# Altium footprint library blecontrollerPCB1_master.PcbLib: 180 footprints (part 7 of 12)
Each footprint in its own frame and in the unit in brackets; x right, y up, seen from the top. Pads: shape width x height; smd on the part's side, far side on the other; paste and mask are expansions set on the pad; w line width, h text height; cw(c..) or ccw(c..) is an arc to the next point about the centre after c.
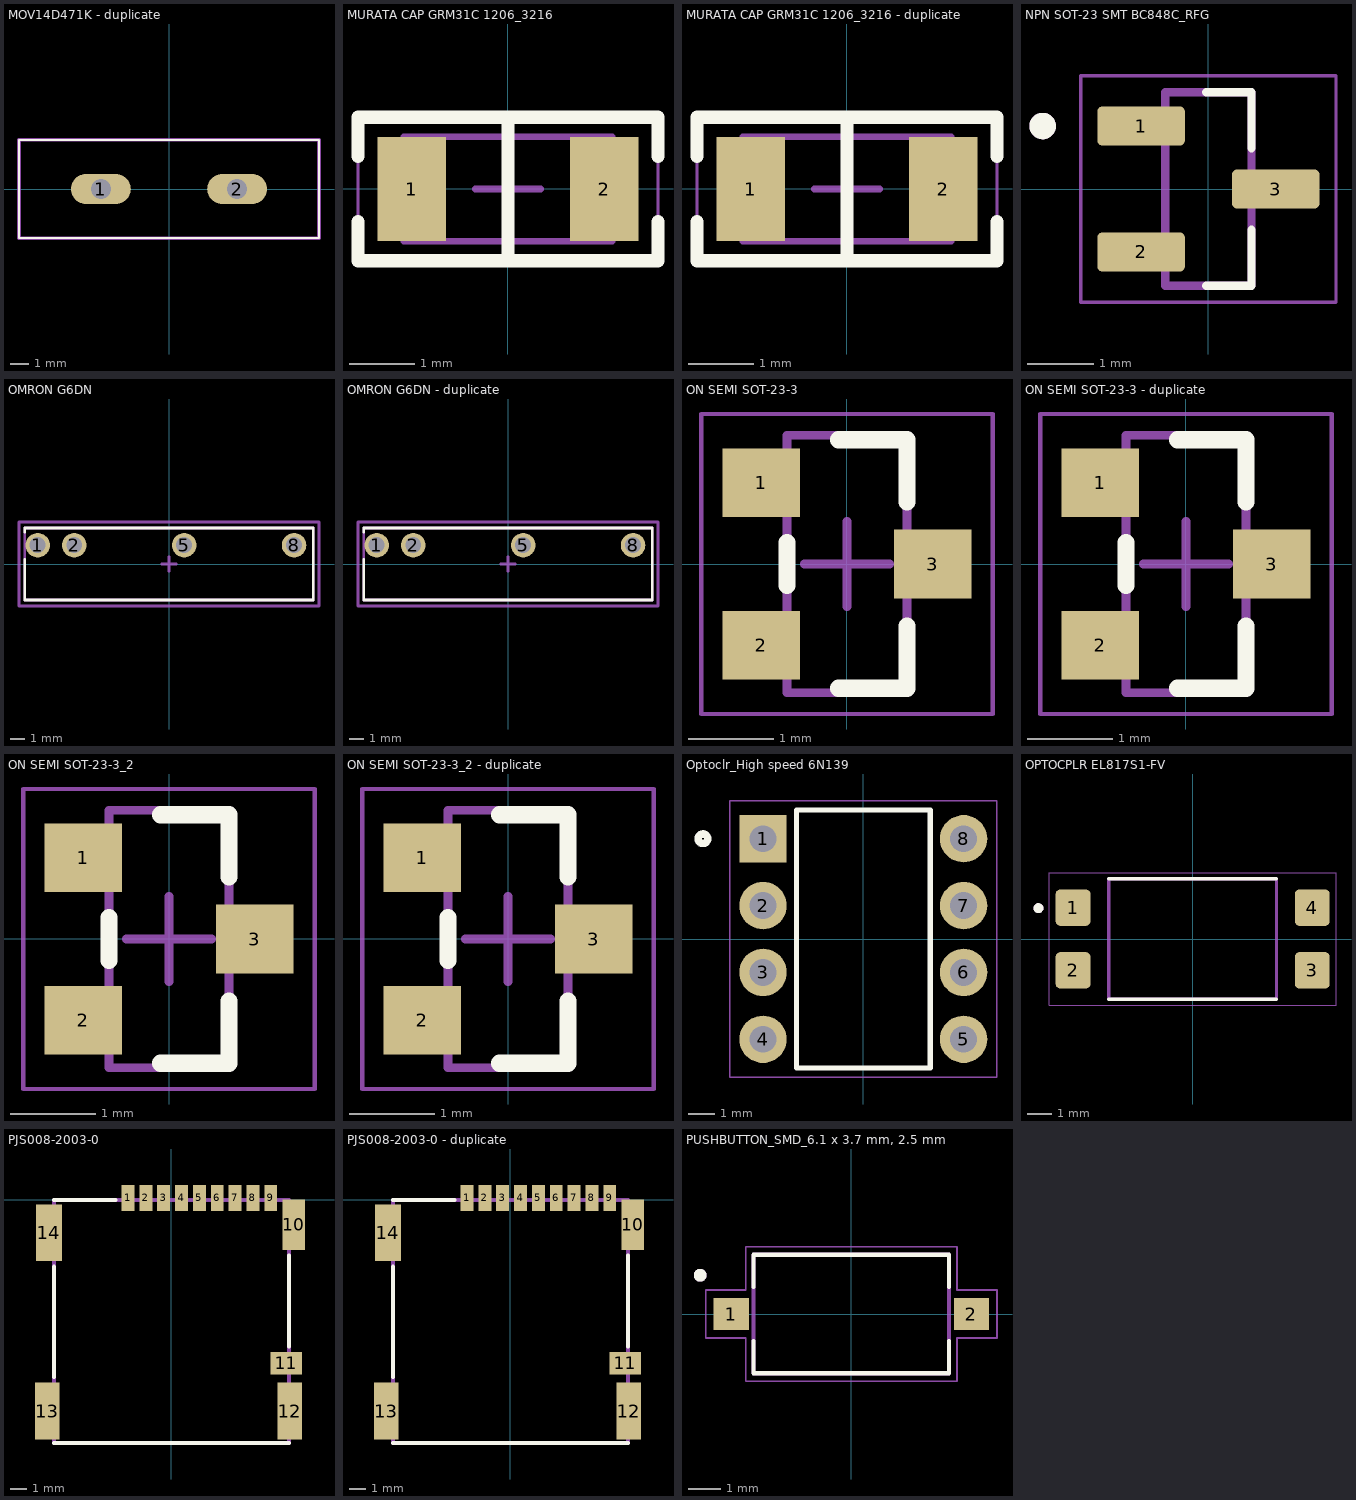
[diagram p6: the footprints below, top view; thin cyan lines are the x and y axes]

## MOV14D471K - duplicate [mm]
pads (2):
  oval 3.3x1.65 hole 1.1: 1(-3.75,0) 2(3.75,0)
Top Overlay:
  lines w0.1: -8.25,-2.7 -8.25,2.7 8.25,2.7 8.25,-2.7 -8.25,-2.7
Mechanical 13:
  lines w0.2: -8.25,-2.7 -8.25,2.7 8.25,2.7 8.25,-2.7 -8.25,-2.7
3D body "step_temp.STEP": height 20, standoff -20, extent -8.25,-2.2 8.25,2.2

## MURATA CAP GRM31C 1206_3216 [mm]
pads (2):
  rect 1.05x1.6 smd: 1(-1.475,0) 2(1.475,0)
Top Overlay:
  lines w0.2: -2.3,-0.5 -2.3,-1.1 2.3,-1.1 2.3,-0.5 ; -2.3,0.5 -2.3,1.1 2.3,1.1 2.3,0.5 ; 0,-1.1 0,1.1
Mechanical 13:
  lines w0.1: -1.6,-0.8 1.6,-0.8 1.6,0.8 -1.6,0.8 -1.6,-0.8
Mechanical 15:
  lines w0.05: -2.3,-1.1 -2.3,1.1 2.3,1.1 2.3,-1.1 -2.3,-1.1
  lines w0.1: -0.5,0 0.5,0 ; 0,-0.5 0,0.5
3D body "Murata GRM31C.step": height 1.6, standoff 0, extent -1.6,-0.8 1.6,0.8

## MURATA CAP GRM31C 1206_3216 - duplicate [mm]
pads (2):
  rect 1.05x1.6 smd: 1(-1.475,0) 2(1.475,0)
Top Overlay:
  lines w0.2: -2.3,-0.5 -2.3,-1.1 2.3,-1.1 2.3,-0.5 ; -2.3,0.5 -2.3,1.1 2.3,1.1 2.3,0.5 ; 0,-1.1 0,1.1
Mechanical 13:
  lines w0.1: -1.6,-0.8 1.6,-0.8 1.6,0.8 -1.6,0.8 -1.6,-0.8
Mechanical 15:
  lines w0.05: -2.3,-1.1 -2.3,1.1 2.3,1.1 2.3,-1.1 -2.3,-1.1
  lines w0.1: -0.5,0 0.5,0 ; 0,-0.5 0,0.5
3D body "Murata GRM31C.step": height 1.6, standoff 0, extent -1.6,-0.8 1.6,0.8

## NPN SOT-23 SMT BC848C_RFG [mm] "NPN SOT-23 SMT BC848C_RFG SOT95P237X112-3N"
height 1.12
pads (3):
  rrect25% 1.32x0.59 smd: 1(-1.015,0.95) 2(-1.015,-0.95) 3(1.015,0)
Top Overlay:
  circle w0.2: c-2.5,0.95 r0.1
  lines w0.127: -0.035,-1.46 0.65,-1.46 0.65,-0.615 ; -0.035,1.46 0.65,1.46 0.65,0.615
Mechanical 13:
  circle w0.2: c-2.5,0.95 r0.1
  lines w0.127: -0.65,-1.46 -0.65,1.46 0.65,1.46 0.65,-1.46 -0.65,-1.46
Mechanical 15:
  lines w0.05: -1.925,-1.71 -1.925,1.71 1.925,1.71 1.925,-1.71 -1.925,-1.71
3D body "step_temp.STEP": height 1.12, standoff 0, extent -1.188,-1.46 1.188,1.46

## OMRON G6DN [mm]
pads (4):
  round 1.7 hole 1.1: 1(-9.109,1.31) 2(-6.569,1.31) 5(1.051,1.31) 8(8.671,1.31)
Top Overlay:
  lines w0.2: -10,0.3 -10,-2.5 10,-2.5 10,2.5 -10,2.5 -10,2.2
Top Courtyard:
  lines w0.2: -0.5,0 0.5,0 ; 0,-0.5 0,0.5 ; -10.4,-2.9 10.4,-2.9 10.4,2.9 -10.4,2.9 -10.4,-2.9
Top Assembly:
  lines w0.2: -10,-2.5 -10,2.5 10,2.5 10,-2.5 -10,-2.5
3D body "OMRON G6DN.step": height 12.5, standoff -3.3, extent -10,-2.54 10,2.54

## OMRON G6DN - duplicate [mm]
pads (4):
  round 1.7 hole 1.1: 1(-9.109,1.31) 2(-6.569,1.31) 5(1.051,1.31) 8(8.671,1.31)
Top Overlay:
  lines w0.2: -10,0.3 -10,-2.5 10,-2.5 10,2.5 -10,2.5 -10,2.2
Top Courtyard:
  lines w0.2: -0.5,0 0.5,0 ; 0,-0.5 0,0.5 ; -10.4,-2.9 10.4,-2.9 10.4,2.9 -10.4,2.9 -10.4,-2.9
Top Assembly:
  lines w0.2: -10,-2.5 -10,2.5 10,2.5 10,-2.5 -10,-2.5
3D body "OMRON G6DN.step": height 12.5, standoff -3.3, extent -10,-2.54 10,2.54

## ON SEMI SOT-23-3 [mm]
pads (3):
  rect 0.9x0.8 smd: 1(-1,0.95) 2(-1,-0.95) 3(1,0)
Top Overlay:
  lines w0.2: -0.7,-0.25 -0.7,0.25 ; -0.1,-1.45 0.7,-1.45 0.7,-0.725 ; -0.1,1.45 0.7,1.45 0.7,0.725
Mechanical 13:
  lines w0.1: -0.7,-1.5 0.7,-1.5 0.7,1.5 -0.7,1.5 -0.7,-1.5
Mechanical 15:
  lines w0.05: -1.7,-1.75 -1.7,1.75 1.7,1.75 1.7,-1.75 -1.7,-1.75
  lines w0.1: -0.5,0 0.5,0 ; 0,-0.5 0,0.5
3D body "sot-23-3-infineon.STEP": height 1, standoff 0, extent -1.16,-1.45 1.16,1.45

## ON SEMI SOT-23-3 - duplicate [mm]
pads (3):
  rect 0.9x0.8 smd: 1(-1,0.95) 2(-1,-0.95) 3(1,0)
Top Overlay:
  lines w0.2: -0.7,-0.25 -0.7,0.25 ; -0.1,-1.45 0.7,-1.45 0.7,-0.725 ; -0.1,1.45 0.7,1.45 0.7,0.725
Mechanical 13:
  lines w0.1: -0.7,-1.5 0.7,-1.5 0.7,1.5 -0.7,1.5 -0.7,-1.5
Mechanical 15:
  lines w0.05: -1.7,-1.75 -1.7,1.75 1.7,1.75 1.7,-1.75 -1.7,-1.75
  lines w0.1: -0.5,0 0.5,0 ; 0,-0.5 0,0.5
3D body "sot-23-3-infineon.STEP": height 1, standoff 0, extent -1.16,-1.45 1.16,1.45

## ON SEMI SOT-23-3_2 [mm]
pads (3):
  rect 0.9x0.8 smd: 1(-1,0.95) 2(-1,-0.95) 3(1,0)
Top Overlay:
  lines w0.2: -0.7,-0.25 -0.7,0.25 ; -0.1,-1.45 0.7,-1.45 0.7,-0.725 ; -0.1,1.45 0.7,1.45 0.7,0.725
Mechanical 13:
  lines w0.1: -0.7,-1.5 0.7,-1.5 0.7,1.5 -0.7,1.5 -0.7,-1.5
Mechanical 15:
  lines w0.05: -1.7,-1.75 -1.7,1.75 1.7,1.75 1.7,-1.75 -1.7,-1.75
  lines w0.1: -0.5,0 0.5,0 ; 0,-0.5 0,0.5
3D body "sot-23-3-infineon.STEP": height 1, standoff 0, extent -1.16,-1.45 1.16,1.45

## ON SEMI SOT-23-3_2 - duplicate [mm]
pads (3):
  rect 0.9x0.8 smd: 1(-1,0.95) 2(-1,-0.95) 3(1,0)
Top Overlay:
  lines w0.2: -0.7,-0.25 -0.7,0.25 ; -0.1,-1.45 0.7,-1.45 0.7,-0.725 ; -0.1,1.45 0.7,1.45 0.7,0.725
Mechanical 13:
  lines w0.1: -0.7,-1.5 0.7,-1.5 0.7,1.5 -0.7,1.5 -0.7,-1.5
Mechanical 15:
  lines w0.05: -1.7,-1.75 -1.7,1.75 1.7,1.75 1.7,-1.75 -1.7,-1.75
  lines w0.1: -0.5,0 0.5,0 ; 0,-0.5 0,0.5
3D body "sot-23-3-infineon.STEP": height 1, standoff 0, extent -1.16,-1.45 1.16,1.45

## Optoclr_High speed 6N139 [mm] "Optoclr_High speed 6N139 DIP-8"
pads (8):
  rect 1.8x1.8 hole 1.02: 1(-3.81,3.81)
  round 1.8 hole 1.02: 2(-3.81,1.27) 3(-3.81,-1.27) 4(-3.81,-3.81) 5(3.81,-3.81) 6(3.81,-1.27) 7(3.81,1.27) 8(3.81,3.81)
Top Overlay:
  circle w0.2: c-6.096,3.81 r0.224
  circle w0.2: c-6.096,3.81 r0.141
  lines w0.2: -2.54,-4.9 -2.54,4.9 2.54,4.9 2.54,-4.9 -2.54,-4.9
Mechanical 15:
  lines w0.05: -5.08,-5.25 -5.08,5.25 5.08,5.25 5.08,-5.25 -5.08,-5.25
3D body "step_temp.STEP": height 5.08, standoff -3.9, extent -3.96,-4.827 3.96,4.828

## OPTOCPLR EL817S1-FV [mm] "OPTOCPLR EL817S1 SOIC254P1030X390-4N_EL817S1-FV"
pads (4):
  rrect25% 1.41x1.47 smd: 1(-4.85,1.27) 2(-4.85,-1.27) 3(4.85,-1.27) 4(4.85,1.27)
Top Overlay:
  circle w0.2: c-6.25,1.25 r0.1
  lines w0.127: -3.4,-2.44 3.4,-2.44 ; -3.4,2.44 3.4,2.44
Mechanical 13:
  circle w0.2: c-6.25,1.25 r0.1
  lines w0.127: -3.4,-2.44 -3.4,2.44 3.4,2.44 3.4,-2.44 -3.4,-2.44
Mechanical 15:
  lines w0.05: -5.81,-2.69 5.81,-2.69 5.81,2.69 -5.81,2.69 -5.81,-2.69
3D body "EL817S1(C)(TA)-V.STEP": height 3.9, standoff 0, extent -5.023,-2.29 5.277,2.29

## PCBComponent_1 [mm]

## PJS008-2003-0 [mm]
pads (14):
  rect 0.8x1.6 smd: 1(-2.675,0.124) 2(-1.575,0.124) 3(-0.475,0.124) 4(0.625,0.124) 5(1.725,0.124) 6(2.825,0.124) 7(3.925,0.124) 8(5.025,0.124) 9(6.125,0.124)
  rect 1.4x3.1 smd: 10(7.55,-1.526)
  rect 1.95x1.4 smd: 11(7.075,-10.076)
  rect 1.5x3.5 smd: 12(7.3,-13.026) 13(-7.65,-13.026)
  rect 1.6x3.5 smd: 14(-7.55,-2.026)
Top Overlay:
  lines w0.254: -7.25,-15 7.25,-15 ; -7.25,-10.93 -7.25,-4.122 ; -7.25,0 -3.445,0 ; 7.25,-9.032 7.25,-3.428
Mechanical 13:
  lines w0.254: -7.25,-15 -7.25,0 7.25,0 7.25,-15 -7.25,-15

## PJS008-2003-0 - duplicate [mm]
pads (14):
  rect 0.8x1.6 smd: 1(-2.675,0.124) 2(-1.575,0.124) 3(-0.475,0.124) 4(0.625,0.124) 5(1.725,0.124) 6(2.825,0.124) 7(3.925,0.124) 8(5.025,0.124) 9(6.125,0.124)
  rect 1.4x3.1 smd: 10(7.55,-1.526)
  rect 1.95x1.4 smd: 11(7.075,-10.076)
  rect 1.5x3.5 smd: 12(7.3,-13.026) 13(-7.65,-13.026)
  rect 1.6x3.5 smd: 14(-7.55,-2.026)
Top Overlay:
  lines w0.254: -7.25,-15 7.25,-15 ; -7.25,-10.93 -7.25,-4.122 ; -7.25,0 -3.445,0 ; 7.25,-9.032 7.25,-3.428
Mechanical 13:
  lines w0.254: -7.25,-15 -7.25,0 7.25,0 7.25,-15 -7.25,-15

## PUSHBUTTON_SMD_6.1 x 3.7 mm, 2.5 mm [mm] "6.1 x 3.7 mm, 2.5 mm Actuator Height, 260 gf, Red, Surface Mount, SPST, Tactile Switch, TS09-63-25-R-260-SMT-TR"
height 2.5
pads (2):
  rect 1.1x1 smd: 1(-3.75,0) 2(3.75,0)
Top Overlay:
  circle w0.2: c-4.72,1.21 r0.1
  lines w0.127: -3.05,-0.85 -3.05,-1.85 3.05,-1.85 3.05,-0.85 ; -3.05,0.85 -3.05,1.85 3.05,1.85 3.05,0.85
Mechanical 13:
  circle w0.2: c-4.72,1.21 r0.1
  lines w0.127: -3.05,-1.85 3.05,-1.85 3.05,1.85 -3.05,1.85 -3.05,-1.85
Mechanical 15:
  lines w0.05: -4.55,-0.75 -4.55,0.75 -3.3,0.75 -3.3,2.1 3.3,2.1 3.3,0.75 4.55,0.75 4.55,-0.75 3.3,-0.75 3.3,-2.1 -3.3,-2.1 -3.3,-0.75 -4.55,-0.75
3D body "step_temp.STEP": height 2.5, standoff -0.05, extent -4.05,-1.85 4.05,1.85